# Altium schematic symbol library tyco-d-sub.SchLib: 1 symbol
Pins are listed as number, name and electrical type; pins without a type are passive.

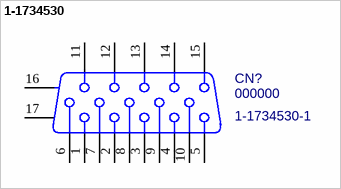
[diagram p0: symbol 1-1734530]

## 1-1734530
designator CN?, comment 000000  value 1-1734530-1
Receptacle Assy, Size 1, 15 Position, Right Angle, Trough Hole; Package: PTH; PN: 000000; ExtraInfo: *
footprint 1-1734530 (Receptacle Assy, Size 1, 15 Position, Right Angle, Trough Hole)
pins: 1, 2, 3, 4, 5, 6, 7, 8, 9, 10, 11, 12, 13, 14, 15, 16 MH1, 17 MH2